# EAGLE library part DS89C21 (library Interface)
DS89C21 Differential CMOS Line Driver and Receiver Pair • Meets TIA/EIA-422-A (RS-422) and CCITT V.11 Recommendation • LOW POWER Design—15 mW Typical Datasheet <http://www.ti.com/lit/ds/symlink/ds89c21.pdf>
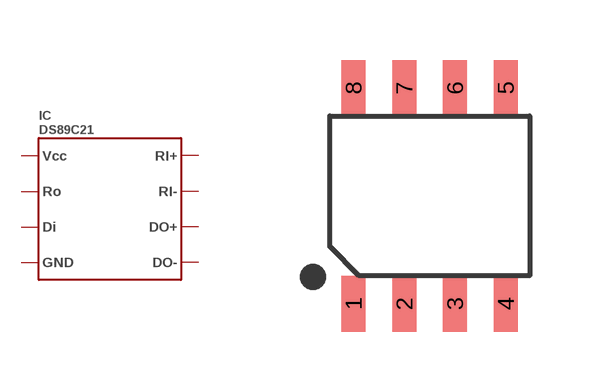
[diagram p11: symbol with the pads of SOIC8-1.27-5X4MM; footprint SOIC8-1.27-5X4MM]

Designator prefix IC

## DS89C21  [SOIC8-1.27-5X4MM]
1  P$1
2  P$2
3  P$3
4  P$4
5  P$5
6  P$6
7  P$7
8  P$8

## Footprint SOIC8-1.27-5X4MM (pad centres in mm)
smd 0.6 x 1.4: 1 -1.905,-2.7; 2 -0.635,-2.7; 3 0.635,-2.7; 4 1.905,-2.7; 5 1.905,2.7; 6 0.635,2.7; 7 -0.635,2.7; 8 -1.905,2.7